# EAGLE library part MAX11613EUA (library stutz-eagle)
Maxim 12-bit ADC 4 channels MAX11612EUA
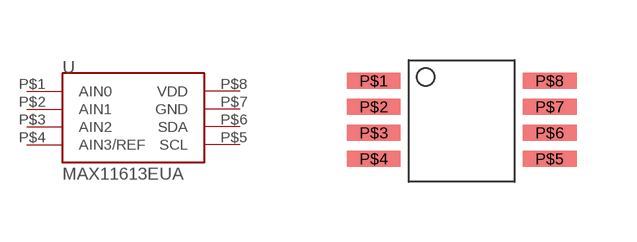
[diagram p0: symbol with the pads of UMAX-8PIN; footprint UMAX-8PIN]

Designator prefix -

## MAX11613EUA  [UMAX-8PIN]
P$1  AIN0
P$2  AIN1
P$3  AIN2
P$4  AIN3/REF
P$5  SCL
P$6  SDA
P$7  GND  pwr
P$8  VDD  pwr

## Footprint UMAX-8PIN (pad centres in mm)
uMax-8pin
smd 1.35 x 0.4: P$1 -2.2,1; P$2 -2.2,0.35; P$3 -2.2,-0.3; P$4 -2.2,-0.95; P$5 2.2,-0.95; P$6 2.2,-0.3; P$7 2.2,0.35; P$8 2.2,1